# EAGLE library part SENS_GY-MPU6050 (library eagleLib v2)
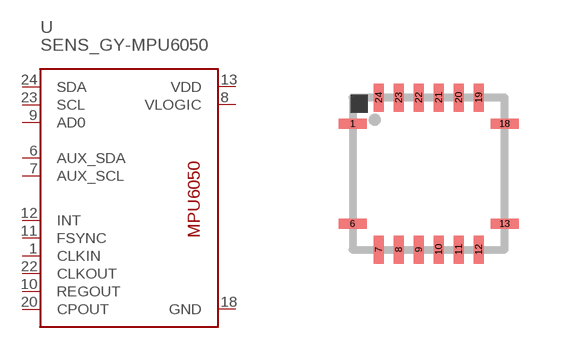
[diagram p52: symbol with the pads of MPU-6050; footprint MPU-6050]

Designator prefix -

## SENS_GY-MPU6050-Q  [MPU-6050]
1  CLKIN
6  AUX_SDA
7  AUX_SCL
8  VLOGIC
9  AD0
10  REGOUT
11  FSYNC
12  INT
13  VDD
18  GND
20  CPOUT
22  CLKOUT
23  SCL
24  SDA

## Footprint MPU-6050 (pad centres in mm)
UF Package 24-Lead (4mm × 4mm) Plastic QFN Source: http://cds.linear.com/docs/Datasheet/5598f.pdf
smd 0.7 x 0.25: 1 -1.9,1.25; 6 -1.9,-1.25; 13 1.9,-1.25; 18 1.9,1.25
smd 0.25 x 0.7: 7 -1.25,-1.9; 8 -0.75,-1.9; 9 -0.25,-1.9; 10 0.25,-1.9; 11 0.75,-1.9; 12 1.25,-1.9; 19 1.25,1.9; 20 0.75,1.9; 21 0.25,1.9; 22 -0.25,1.9; 23 -0.75,1.9; 24 -1.25,1.9